# EAGLE library part IC-TTL-74-540 (library mylib)
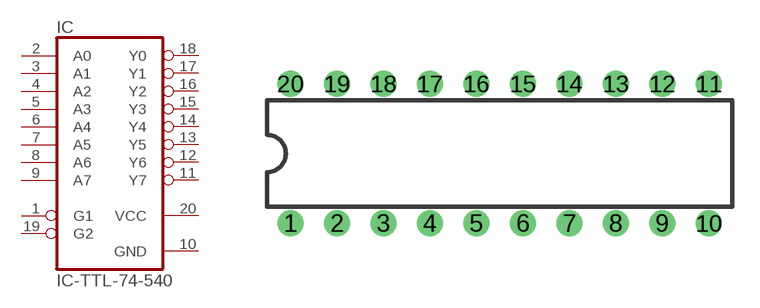
[diagram p76: symbol with the pads of IC-SOCKET-DIL-20-300MIL; footprint IC-SOCKET-DIL-20-300MIL]

Designator prefix IC

## IC-TTL-74-540-DIP  [IC-SOCKET-DIL-20-300MIL]
1  G1  in
2  A0  in
3  A1  in
4  A2  in
5  A3  in
6  A4  in
7  A5  in
8  A6  in
9  A7  in
10  GND  pwr
11  Y7  out
12  Y6  out
13  Y5  out
14  Y4  out
15  Y3  out
16  Y2  out
17  Y1  out
18  Y0  out
19  G2  in
20  VCC  pwr

## Footprint IC-SOCKET-DIL-20-300MIL (pad centres in mm)
drill 0.889: 1 -11.43,-3.81; 2 -8.89,-3.81; 3 -6.35,-3.81; 4 -3.81,-3.81; 5 -1.27,-3.81; 6 1.27,-3.81; 7 3.81,-3.81; 8 6.35,-3.81; 9 8.89,-3.81; 10 11.43,-3.81; 11 11.43,3.81; 12 8.89,3.81; 13 6.35,3.81; 14 3.81,3.81; 15 1.27,3.81; 16 -1.27,3.81; 17 -3.81,3.81; 18 -6.35,3.81; 19 -8.89,3.81; 20 -11.43,3.81